# EAGLE library part FDC6420C (library LITTLEBITS140915)
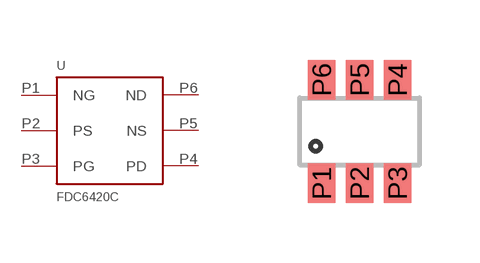
[diagram p77: symbol with the pads of SUPERSOT-6; footprint SUPERSOT-6]

Designator prefix -

## FDC6420C  [SUPERSOT-6]
P1  NG
P2  PS
P3  PG
P4  PD
P5  NS
P6  ND

## Footprint SUPERSOT-6 (pad centres in mm)
smd 0.69 x 0.99: P1 -0.95,-1.295; P2 0,-1.295; P3 0.95,-1.295; P4 0.95,1.295; P5 0,1.295; P6 -0.95,1.295